# EAGLE library part TRANS_DP_DS (library common)
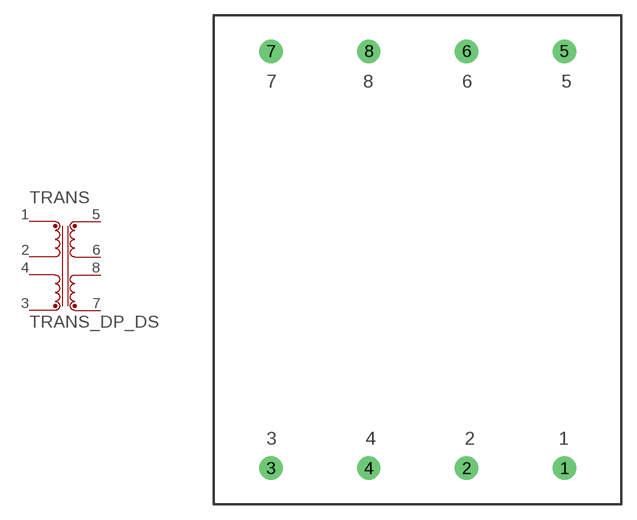
[diagram p2: symbol with the pads of PC_MOUNT_FLAT_PACK; footprint PC_MOUNT_FLAT_PACK]

Designator prefix TRANS

## TRANS_DP_DS12V_6_3V  [PC_MOUNT_FLAT_PACK]
1  1
2  2
3  3
4  4
5  5
6  6
7  7
8  8

## Footprint PC_MOUNT_FLAT_PACK (pad centres in mm)
drill 1.524: 1 14.287,-20.32; 2 4.763,-20.32; 3 -14.287,-20.32; 4 -4.763,-20.32; 5 14.287,20.32; 6 4.763,20.32; 7 -14.287,20.32; 8 -4.763,20.32